# Altium schematic symbol library Operaciones_SCH_LIBRARY.SchLib: 18 symbols
Pins are listed as number, name and electrical type; pins without a type are passive.

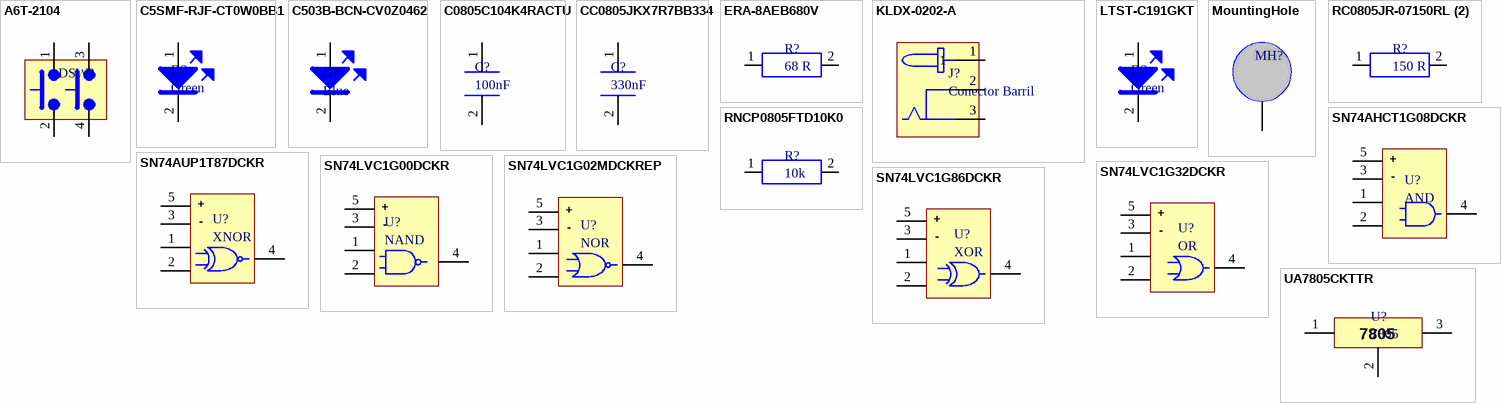
[diagram p0: symbols A6T-2104 to UA7805CKTTR]

## A6T-2104
designator DSW?, comment DIP switch 2 pos  (value not drawn)
Slide Switch,STRAIGHT,DPST,ON-OFF,Number Of Positions:2,PC TAIL Terminal,PCB Hole Count:4; Manufacturer: Omron; Manufacturer Part Number: A6T-2104; Mechanical Life: 1000Cycles; Voltage Rating (DC): 24V; Throw Configuration: SPST; Max Current Rating: 25mA; Number of Positions: 2; Actuator Type: Slide (Standard); Contact Resistance: 200mR; Pitch: 0.1inch; Actuator Length: 0.6mm; Washable: No; Supplier 1: Avnet; Supplier Part Number 1: A6T2104; Stock 1: 0; Pricing 1: 76=0.9571, 152=0.9269, 304=0.8834, 456=0.8585, 608=0.8274 (USD); Mount: Through Hole,PCB; Case/Package: DIP; Weight: 0.26g; Contact Plating: Gold; Contact Material: Gold; Min Operating Temperature: -20°C; Max Operating Temperature: 70°C; Package Quantity: 76; Packaging: Rail/Tube; Current Rating: 25mA; Termination: PC Pins; Electrical Life: 1000Cycles; Orientation: Straight; Contact Current Rating: 25mA; Max Voltage Rating (DC): 24V; Number of Circuits: 2; Length: 0.237inch; Height: 4.2mm; Width: 6.2mm; Terminal Pitch: 2.54mm; Radiation Hardening: No; Lead Free: Lead Free; REACH SVHC: Unknown; ComponentLink1URL: http://www.omron.com/ecb/products/pdf/en-a6t.pdf?src-supplier=Digi-Key; ComponentLink1Description: http://www.omron.com/ecb/products/pdf/en-a6t.pdf?src-supplier=Digi-Key; ComponentLink2URL: http://www.farnell.com/datasheets/54384.pdf?src-supplier=Element14; ComponentLink2Description: http://www.farnell.com/datasheets/54384.pdf?src-supplier=Element14; ComponentLink3URL: http://www.mouser.com/ds/2/307/A6T_1110-10807.pdf?src-supplier=Mouser; ComponentLink3Description: http://www.mouser.com/ds/2/307/A6T_1110-10807.pdf?src-supplier=Mouser
footprint DipSwitch_1x02
pins: 1, 2, 3, 4

## C5SMF-RJF-CT0W0BB1
designator D?, comment Green
LED RED CLEAR 5MM OVAL T/H; Manufacturer: Cree; Manufacturer Part Number: C5SMF-RJF-CT0W0BB1; Forward Current: 20mA; Forward Voltage: 2.1V; Luminous Intensity: 2640mcd; Lens Style: Elliptical; Viewing Angle: 40°; Dominant Wavelength: 621nm; Supplier 1: Avnet; Supplier Part Number 1: 45W7905; Stock 1: 0; Pricing 1: 1=0.144, 10=0.144, 30=0.144, 50=0.144, 100=0.144 (USD); Mount: Through Hole; Case/Package: Radial; Color: Red; Lens Color: Red; Min Operating Temperature: -40°C; Max Operating Temperature: 95°C; Package Quantity: 500; Packaging: Bulk; Illumination Color: Red; Lens Transparency: Clear; Test Current: 20mA; Height: 10.95mm; ComponentLink1URL: http://www.cree.com/led-components/media/documents/C5SMF-RJF-RJE-GJF-GJE-BJF-BJE-1240.pdf?src-supplier=Digi-Key; ComponentLink1Description: http://www.cree.com/led-components/media/documents/C5SMF-RJF-RJE-GJF-GJE-BJF-BJE-1240.pdf?src-supplier=Digi-Key
footprint LedTHGreen
pins: 1 A, 2 C

## C503B-BCN-CV0Z0462
designator D?, comment Blue
Standard LEDs - Through Hole 30DG BL NOSTNDOF HI BRT LAMP 470NM 3.2V; Manufacturer: Cree; Manufacturer Part Number: C503B-BCN-CV0Z0462; Lens Color: Colorless; Luminous Intensity: 7065mcd; Lens Style: Dome,Round; Viewing Angle: 30°; Forward Current: 20mA; Lens Transparency: Clear; Number of Elements: 1; Power Dissipation: 120mW; Reverse Voltage: 5V; Supplier 1: Avnet; Supplier Part Number 1: 08R2921; Stock 1: 0; Pricing 1: 1=0.21, 10=0.196, 100=0.179, 500=0.171, 1000=0.162 (USD); Mount: Through Hole; Case/Package: Radial; Number of Pins: 2; Color: Blue; Min Operating Temperature: -40°C; Max Operating Temperature: 95°C; Illumination Color: Blue; Forward Voltage: 3.2V; Wavelength: 470nm; Package Quantity: 2500; Packaging: Tape and Reel; Test Current: 20mA; Dominant Wavelength: 470nm; Number of LEDs: 1; Length: 5.8mm; Height: 10.3mm; Depth: 5.8mm; REACH SVHC: Unknown; ComponentLink1URL: http://www.farnell.com/datasheets/1758062.pdf?src-supplier=Element14; ComponentLink1Description: http://www.farnell.com/datasheets/1758062.pdf?src-supplier=Element14; ComponentLink2URL: http://www.cree.com/~/media/Files/Cree/LED%20Components%20and%20Modules/HB/Data%20Sheets/C503B%20BAS%20BAN%20BCS%20BCN%20GAS%20GAN%20GCS%20GCN%201094.pdf?src-supplier=Digi-Key; ComponentLink2Description: http://www.cree.com/~/media/Files/Cree/LED%20Components%20and%20Modules/HB/Data%20Sheets/C503B%20BAS%20BAN%20BCS%20BCN%20GAS%20GAN%20GCS%20GCN%201094.pdf?src-supplier=Digi-Key
footprint LedTHBlue
pins: 1 A, 2 C

## C0805C104K4RACTU
designator C?, comment 100nF
KEMET - C0805C104K4RACTU - SMD Multilayer Ceramic Capacitor, 0.1 µF, 16 V, 0805 [2012 Metric], ± 10%, X7R, C Series KEMET; Voltage Rating: 16V; Supplier 1: Avnet; Supplier Part Number 1: C0805C104K4RACTU; Manufacturer: KEMET; Manufacturer Part Number: C0805C104K4RACTU; Stock 1: 12000; Pricing 1: 4000=0.0363, 8000=0.035, 16000=0.034, 24000=0.0333, 32000=0.032 (USD); Mount: Surface Mount,PCB; Case/Package: 0805; Number of Pins: 2; Case Code (Imperial): 0805; Case Code (Metric): 2012; Contact Plating: Tin,Matte; Dielectric Material: Ceramic; Min Operating Temperature: -55°C; Max Operating Temperature: 125°C; Capacitance: 100nF; Packaging: Tape and Reel; Package Quantity: 1; Tolerance: 10%; Voltage Rating (DC): 16V; Dielectric: X7R; Termination: SMD/SMT; Voltage: 16V; Length: 2mm; Height: 0.9mm; Width: 0.049inch; Lead Pitch: 0.75mm; Thickness: 0.035inch; Depth: 1.25mm; Radiation Hardening: No; REACH SVHC: No SVHC; ComponentLink1URL: http://www.farnell.com/datasheets/2741062.pdf?src-supplier=Element14; ComponentLink1Description: http://www.farnell.com/datasheets/2741062.pdf?src-supplier=Element14
footprint Capacitor0805
pins: 1, 2

## CC0805JKX7R7BB334
designator C?, comment 330nF
CAP CER 0.33UF 16V X7R 0805; Manufacturer: Yageo; Manufacturer Part Number: CC0805JKX7R7BB334; Material: Ceramic; Tolerance: 5%; Supplier 1: Avnet; Supplier Part Number 1: CC0805JKX7R7BB334; Stock 1: 0; Pricing 1: 3000=0.0246, 6000=0.0243, 12000=0.0236, 18000=0.0231, 24000=0.0222 (USD); Mount: Surface Mount; Case/Package: 0805; Min Operating Temperature: -55°C; Max Operating Temperature: 125°C; Voltage Rating: 16V; Capacitance: 330nF; Packaging: Tape and Reel; Dielectric: X7R; Voltage Rating (DC): 16V; Voltage: 16V; Length: 2mm; Width: 0.049inch; Thickness: 0.057inch; Depth: 1.25mm; Radiation Hardening: No; Lead Free: Lead Free; Halogen Free: Halogen Free; ComponentLink1URL: https://www.verical.com/server-webapp/html/getDatasheet?partID=403645&src-supplier=Verical; ComponentLink1Description: https://www.verical.com/server-webapp/html/getDatasheet?partID=403645&src-supplier=Verical
footprint Capacitor0805
pins: 1, 2

## ERA-8AEB680V
designator R?, comment 68 R
RES SMD 68 OHM 0.1% 1/4W 1206; Manufacturer: Panasonic; Manufacturer Part Number: ERA-8AEB680V; Resistance: 68R; Temperature Coefficient: 25ppm/°C; Power Rating: 250mW; Voltage Rating: 300V; Supplier 1: Avnet; Supplier Part Number 1: ERA-8AEB680V; Stock 1: 0; Pricing 1: 5000=0.1506, 10000=0.1475, 20000=0.1455, 30000=0.1413, 40000=0.1382 (USD); Mount: Surface Mount; Case/Package: 1206; Number of Pins: 2; Weight: 0.000571oz; Contact Plating: Tin; Case Code (Imperial): 1206; Case Code (Metric): 3216; Min Operating Temperature: -55°C; Max Operating Temperature: 155°C; Tolerance: 0.1%; Composition: Metal Film,Thin Film; Package Quantity: 5000; Packaging: Tape and Reel; Termination: SMD/SMT; Number of Terminations: 2; Military Standard: Not; Max Power Dissipation: 250mW; Voltage Rating (DC): 300V; Length: 3.2mm; Height: 0.6mm; Width: 1.6mm; Depth: 1.6mm; Radiation Hardening: No; REACH SVHC: No SVHC; Lead Free: Lead Free; ComponentLink1URL: http://industrial.panasonic.com/www-data/pdf/AOA0000/AOA0000CE26.pdf?src-supplier=Avnet+Europe; ComponentLink1Description: http://industrial.panasonic.com/www-data/pdf/AOA0000/AOA0000CE26.pdf?src-supplier=Avnet+Europe; ComponentLink2URL: http://www.farnell.com/datasheets/391390.pdf?src-supplier=Element14; ComponentLink2Description: http://www.farnell.com/datasheets/391390.pdf?src-supplier=Element14; ComponentLink3URL: http://industrial.panasonic.com/www-data/pdf/AOA0000/AOA0000CE26.pdf?src-supplier=Avnet; ComponentLink3Description: http://industrial.panasonic.com/www-data/pdf/AOA0000/AOA0000CE26.pdf?src-supplier=Avnet; ComponentLink4URL: https://www.distrelec.biz/Web/Downloads/_t/ds/ERA_eng_tds.pdf?mime=application%2Fpdf&src-supplier=Distrelec; ComponentLink4Description: https://www.distrelec.biz/Web/Downloads/_t/ds/ERA_eng_tds.pdf?mime=application%2Fpdf&src-supplier=Distrelec
footprint Resistor0805
pins: 1, 2

## KLDX-0202-A
designator J?, comment Conector Barril
Conn Power PIN 2 POS Solder RA Thru-Hole 3 Terminal 1 Port; Manufacturer: Kycon; Manufacturer Part Number: KLDX-0202-A; Number of Contacts: 2; Current Rating: 3.5A; Voltage Rating: 24V; Gender: Female; Insulation Resistance: 100MR; Supplier 1: Avnet; Supplier Part Number 1: KLDX-0202-A; Stock 1: 0; Mount: Through Hole; Contact Plating: Tin; Color: Black; Contact Material: Brass; Housing Material: PBT; Min Operating Temperature: -25°C; Max Operating Temperature: 85°C; Package Quantity: 500; Termination: Solder; Orientation: Right Angle; Packaging: Bag; Contact Gender: Female; Connector Type: Power; Voltage Rating (DC): 24V; Radiation Hardening: No; Flammability Rating: UL94 V-0
footprint JackConector
pins: 1, 2, 3

## LTST-C191GKT
designator D?, comment Green
LED GREEN CLEAR 0603 SMD; Manufacturer: Vishay Lite-On; Manufacturer Part Number: LTST-C191GKT; Lens Color: Colorless; Viewing Angle: 130°; Lens Style: Clear,Diffused,Colorless,Rectangular; Forward Voltage: 2.1V; Luminous Intensity: 12mcd; Forward Current: 30mA; Dominant Wavelength: 569nm; Test Current: 20mA; Wavelength: 565nm; Number of LEDs: 1; Reverse Voltage: 5V; Power Dissipation: 100mW; Supplier 1: Avnet; Supplier Part Number 1: LTST-C191GKT; Stock 1: 0; Pricing 1: 5000=0.037, 10000=0.0361, 20000=0.0344, 30000=0.0334, 40000=0.0327 (USD); Mount: Surface Mount; Case/Package: 0603; Number of Pins: 2; Color: Green; Case Code (Metric): 1608; Case Code (Imperial): 0603; Min Operating Temperature: -55°C; Max Operating Temperature: 85°C; Package Quantity: 1; Illumination Color: Green; Packaging: Tape and Reel; Lens Transparency: Clear; Number of Elements: 1; Power Rating: 100mW; Length: 1.6mm; Height: 0.55mm; Width: 0.8mm; Depth: 0.8mm; Radiation Hardening: No; Lead Free: Lead Free; ComponentLink1URL: http://www1.futureelectronics.com/doc/LITE%20ON/LITE-ON%20LTST-C191GKT.pdf?src-supplier=Future+Electronics; ComponentLink1Description: http://www1.futureelectronics.com/doc/LITE%20ON/LITE-ON%20LTST-C191GKT.pdf?src-supplier=Future+Electronics; ComponentLink2URL: http://www.mouser.com/ds/2/239/liteon_ltst-c191gkt-371200.pdf?src-supplier=Mouser; ComponentLink2Description: http://www.mouser.com/ds/2/239/liteon_ltst-c191gkt-371200.pdf?src-supplier=Mouser; ComponentLink3URL: https://media.digikey.com/pdf/Data%20Sheets/Lite-On%20PDFs/LTST-C191GKT.pdf?src-supplier=Digi-Key; ComponentLink3Description: https://media.digikey.com/pdf/Data%20Sheets/Lite-On%20PDFs/LTST-C191GKT.pdf?src-supplier=Digi-Key
footprint Led0603
pins: 1 A, 2 C

## MountingHole
designator MH?, comment Mounting Hole  (value not drawn)
footprint MH
pins: 1

## RC0805JR-07150RL (2)
designator R?, comment 150 R
YAGEO (PHYCOMP)   RC0805JR-07150RL   Surface Mount Chip Resistor, Thick Film, RC Series, 150 ohm, 125 mW,  5%, 150 V; Resistance: 150R; Temperature Coefficient: 100ppm/°C; Power Rating: 125mW; Voltage Rating: 150V; Supplier 1: Avnet; Supplier Part Number 1: RC0805JR-07150RL; Manufacturer: Yageo; Manufacturer Part Number: RC0805JR-07150RL; Stock 1: 0; Pricing 1: 5000=0.0021, 10000=0.002, 20000=0.002, 30000=0.0019, 40000=0.0018 (USD); Case/Package: 0805; Contact Plating: Tin,Matte,Lead; Case Code (Imperial): 0805; Case Code (Metric): 2012; Min Operating Temperature: -55°C; Max Operating Temperature: 155°C; Tolerance: 5%; Composition: Thick Film; Packaging: Tape and Reel; Termination: SMD/SMT; Radiation Hardening: No; REACH SVHC: Unknown; Lead Free: Lead Free; ComponentLink1URL: http://www.farnell.com/datasheets/444164.pdf?src-supplier=Element14; ComponentLink1Description: http://www.farnell.com/datasheets/444164.pdf?src-supplier=Element14; ComponentLink2URL: http://www.farnell.com/datasheets/442941.pdf?src-supplier=Element14; ComponentLink2Description: http://www.farnell.com/datasheets/442941.pdf?src-supplier=Element14
footprint Resistor0805
pins: 1, 2

## RNCP0805FTD10K0
designator R?, comment 10k
RES 10K OHM 1% 1/4W 0805; Manufacturer: Stackpole Electronics; Manufacturer Part Number: RNCP0805FTD10K0; Resistance: 10kR; Max Power Dissipation: 250mW; Temperature Coefficient: 100ppm/°C; Supplier 1: Avnet; Supplier Part Number 1: RNCP0805FTD10K0; Stock 1: 0; Pricing 1: 5000=0.0068, 10000=0.0067, 20000=0.0065, 30000=0.0064, 40000=0.0061 (USD); Mount: Surface Mount; Case/Package: 0805; Case Code (Metric): 2012; Case Code (Imperial): 0805; Min Operating Temperature: -55°C; Max Operating Temperature: 155°C; Tolerance: 1%; Packaging: Tape and Reel; Composition: Thin Film; Number of Terminations: 2; Features: Moisture Resistant,Anti-Sulfur; Length: 0.079inch; Height: 0.024inch; Width: 0.049inch; Lead Free: Lead Free; ComponentLink1URL: https://www.seielect.com/catalog/SEI-Packaging.pdf?src-supplier=Digi-Key; ComponentLink1Description: https://www.seielect.com/catalog/SEI-Packaging.pdf?src-supplier=Digi-Key
footprint Resistor0805
pins: 1, 2

## SN74AHCT1G08DCKR
designator U?, comment AND
IC GATE AND 1CH 2-INP SC70-5; Manufacturer: Texas Instruments; Manufacturer Part Number: SN74AHCT1G08DCKR; Max Supply Voltage: 5.5V; Min Supply Voltage: 4.5V; Operating Supply Voltage: 5V; Propagation Delay: 7.9ns; Number of Outputs: 1; Number of Inputs: 2; Output Current: 8mA; Quiescent Current: 1uA; High Level Output Current: -8mA; Turn-On Delay Time: 9ns; Schmitt Trigger Input: No; Supplier 1: Avnet; Supplier Part Number 1: SN74AHCT1G08DCKR; Stock 1: 0; Pricing 1: 9000=0.0434, 15000=0.0417, 24000=0.0398, 45000=0.0386, 90000=0.0372 (USD); Mount: Surface Mount; Case/Package: SC; Number of Pins: 5; Weight: 8.8E-05oz; Contact Plating: Gold; Min Operating Temperature: -40°C; Max Operating Temperature: 125°C; Logic Function: AND; Packaging: Tape and Reel; Package Quantity: 3000; Number of Elements: 1; Number of Gates: 1; Number of Input Lines: 2; Number of Output Lines: 1; Low Level Output Current: 8mA; Number of Circuits: 1; Number of Bits: 1; Max Output Current: 8mA; Termination: SMD/SMT; Length: 2mm; Height: 0.9mm; Width: 1.25mm; Radiation Hardening: No; REACH SVHC: No SVHC; Lead Free: Lead Free; ComponentLink1URL: http://www.farnell.com/datasheets/1834083.pdf?src-supplier=Element14; ComponentLink1Description: http://www.farnell.com/datasheets/1834083.pdf?src-supplier=Element14; ComponentLink2URL: http://www.farnell.com/datasheets/1763941.pdf?src-supplier=Element14; ComponentLink2Description: http://www.farnell.com/datasheets/1763941.pdf?src-supplier=Element14; ComponentLink3URL: http://www.farnell.com/datasheets/1882756.pdf?src-supplier=Element14; ComponentLink3Description: http://www.farnell.com/datasheets/1882756.pdf?src-supplier=Element14; ComponentLink4URL: http://www.ti.com/lit/ds/symlink/sn74ahct1g08.pdf?src-supplier=Digi-Key; ComponentLink4Description: http://www.ti.com/lit/ds/symlink/sn74ahct1g08.pdf?src-supplier=Digi-Key
footprint DCK_SC_70_5
pins: 1 A, 2 B, 3 GND, 4 Y, 5 VCC
text: +; -

## SN74AUP1T87DCKR
designator U?, comment XNOR
TEXAS INSTRUMENTS - SN74AUP1T87DCKR - LOGIC, XNOR GATE, SINGLE, SC-70-5; Min Supply Voltage: 2.3V; Max Supply Voltage: 3.6V; Propagation Delay: 4.4ns; Number of Inputs: 2; Number of Circuits: 1; Quiescent Current: 500nA; High Level Output Current: 4mA; Logic Function: NOR,XNOR; Nominal Supply Current: 900nA; Supplier 1: Avnet; Supplier Part Number 1: SN74AUP1T87DCKR; Manufacturer: Texas Instruments; Manufacturer Part Number: SN74AUP1T87DCKR; Stock 1: 0; Pricing 1: 6000=0.093, 12000=0.0894, 18000=0.0852, 30000=0.0828, 60000=0.0798 (USD); Mount: Surface Mount; Case/Package: SC; Number of Pins: 5; Min Operating Temperature: -40°C; Max Operating Temperature: 85°C; Packaging: Tape and Reel; Package Quantity: 1; Low Level Output Current: 4mA; Number of Elements: 1; Number of Gates: 1; Number of Bits: 1; Number of Outputs: 1; Output Current: 4mA; Radiation Hardening: No; Lead Free: Lead Free; REACH SVHC: No SVHC; ComponentLink1URL: http://focus.ti.com/lit/ds/symlink/sn74aup1t87.pdf?src-supplier=Avnet; ComponentLink1Description: http://focus.ti.com/lit/ds/symlink/sn74aup1t87.pdf?src-supplier=Avnet; ComponentLink2URL: http://www.ti.com/general/docs/lit/getliterature.tsp?genericPartNumber=SN74AUP1T87&&fileType=pdf&src-supplier=Avnet; ComponentLink2Description: http://www.ti.com/general/docs/lit/getliterature.tsp?genericPartNumber=SN74AUP1T87&&fileType=pdf&src-supplier=Avnet; ComponentLink3URL: http://www.farnell.com/datasheets/2020581.pdf?src-supplier=Element14; ComponentLink3Description: http://www.farnell.com/datasheets/2020581.pdf?src-supplier=Element14; ComponentLink4URL: http://www.ti.com/lit/ds/symlink/sn74aup1t87.pdf?src-supplier=Digi-Key; ComponentLink4Description: http://www.ti.com/lit/ds/symlink/sn74aup1t87.pdf?src-supplier=Digi-Key
footprint DCK_SC_70_5
pins: 1 A, 2 B, 3 GND, 4 Y, 5 VCC
text: +; -

## SN74LVC1G00DCKR
designator U?, comment NAND
TEXAS INSTRUMENTS         SN74LVC1G00DCKR            NAND Gate, LVC Family, 1 Gate, 2 Input, 32 mA, 1.65V to 5.5V, SC-70-5; Number of Inputs: 2; Propagation Delay: 4ns; Number of Outputs: 1; Low Level Output Current: 32mA; Quiescent Current: 10uA; High Level Output Current: -32mA; Turn-On Delay Time: 4.3ns; Schmitt Trigger Input: No; Operating Supply Voltage: 5V; Supplier 1: Avnet; Supplier Part Number 1: SN74LVC1G00DCKR; Manufacturer: Texas Instruments; Manufacturer Part Number: SN74LVC1G00DCKR; Stock 1: 0; Pricing 1: 3000=0.0341, 6000=0.0328, 12000=0.0312, 18000=0.0304, 24000=0.0293 (USD); Mount: Surface Mount; Case/Package: SC; Number of Pins: 5; Weight: 8.8E-05oz; Contact Plating: Gold; Min Operating Temperature: -40°C; Max Operating Temperature: 125°C; Logic Function: NAND; Min Supply Voltage: 1.65V; Max Supply Voltage: 5.5V; Packaging: Tape and Reel; Package Quantity: 1; Number of Gates: 1; Number of Input Lines: 2; Number of Output Lines: 1; Number of Circuits: 1; Number of Elements: 1; Number of Bits: 1; Output Current: 32mA; Max Output Current: 32mA; Termination: SMD/SMT; Length: 2mm; Height: 0.9mm; Width: 1.25mm; Radiation Hardening: No; Lead Free: Lead Free; REACH SVHC: No SVHC; ComponentLink1URL: http://www.farnell.com/datasheets/1887494.pdf?src-supplier=Element14; ComponentLink1Description: http://www.farnell.com/datasheets/1887494.pdf?src-supplier=Element14; ComponentLink2URL: http://www.jameco.com/Jameco/Products/ProdDS/1043571.pdf?src-supplier=Jameco; ComponentLink2Description: http://www.jameco.com/Jameco/Products/ProdDS/1043571.pdf?src-supplier=Jameco; ComponentLink3URL: http://www.ti.com/lit/ds/symlink/sn74lvc1g00.pdf?src-supplier=Digi-Key; ComponentLink3Description: http://www.ti.com/lit/ds/symlink/sn74lvc1g00.pdf?src-supplier=Digi-Key; ComponentLink4URL: http://www.ti.com/general/docs/lit/getliterature.tsp?genericPartNumber=SN74LVC1G00&&fileType=pdf&src-supplier=Avnet; ComponentLink4Description: http://www.ti.com/general/docs/lit/getliterature.tsp?genericPartNumber=SN74LVC1G00&&fileType=pdf&src-supplier=Avnet; ComponentLink5URL: https://www.verical.com/server-webapp/html/getDatasheet?partID=189925&src-supplier=Verical; ComponentLink5Description: https://www.verical.com/server-webapp/html/getDatasheet?partID=189925&src-supplier=Verical; ComponentLink6URL: http://www.produktinfo.conrad.com/datenblaetter/1000000-1099999/001075097-da-01-en-IC_NAND_GATE_2_SN74LVC1G00DCKR_SC_70_TID.pdf?src-supplier=Conrad; ComponentLink6Description: http://www.produktinfo.conrad.com/datenblaetter/1000000-1099999/001075097-da-01-en-IC_NAND_GATE_2_SN74LVC1G00DCKR_SC_70_TID.pdf?src-supplier=Conrad
footprint DCK_SC_70_5
pins: 1 A, 2 B, 3 GND, 4 Y, 5 VCC
text: +; -

## SN74LVC1G02MDCKREP
designator U?, comment NOR
Enhanced Product Single 2-Input Positive-Nor Gate 5-SC70 -55 to 125; Manufacturer: Texas Instruments; Manufacturer Part Number: SN74LVC1G02MDCKREP; Min Supply Voltage: 1.65V; Max Supply Voltage: 5.5V; Quiescent Current: 10uA; Output Current: 32mA; Number of Inputs: 2; Propagation Delay: 5ns; Number of Circuits: 1; High Level Output Current: -32mA; Turn-On Delay Time: 6ns; Supplier 1: Avnet; Supplier Part Number 1: SN74LVC1G02MDCKREP; Stock 1: 0; Pricing 1: 3000=0.8727, 6000=0.8389, 12000=0.7995, 18000=0.7769, 24000=0.7488 (USD); Mount: Surface Mount; Case/Package: SC; Number of Pins: 5; Weight: 8.8E-05oz; Min Operating Temperature: -55°C; Max Operating Temperature: 125°C; Logic Function: NOR; Package Quantity: 1; Packaging: Tape and Reel; Low Level Output Current: 32mA; Number of Gates: 1; Number of Elements: 1; Number of Bits: 1; Number of Outputs: 1; Number of Input Lines: 2; Number of Output Lines: 1; Radiation Hardening: No; REACH SVHC: No SVHC; Lead Free: Lead Free; ComponentLink1URL: http://www.ti.com/general/docs/lit/getliterature.tsp?genericPartNumber=SN74LVC1G02-EP&&fileType=pdf&src-supplier=Avnet; ComponentLink1Description: http://www.ti.com/general/docs/lit/getliterature.tsp?genericPartNumber=SN74LVC1G02-EP&&fileType=pdf&src-supplier=Avnet; ComponentLink2URL: http://www.ti.com/lit/ds/symlink/sn74lvc1g02-ep.pdf?src-supplier=Digi-Key; ComponentLink2Description: http://www.ti.com/lit/ds/symlink/sn74lvc1g02-ep.pdf?src-supplier=Digi-Key; ComponentLink3URL: http://focus.ti.com/lit/ds/symlink/sn74lvc1g02-ep.pdf?src-supplier=Avnet+Europe; ComponentLink3Description: http://focus.ti.com/lit/ds/symlink/sn74lvc1g02-ep.pdf?src-supplier=Avnet+Europe; ComponentLink4URL: http://www.produktinfo.conrad.com/datenblaetter/1000000-1099999/001073413-da-01-en-IC_SNGL_2_SN74LVC1G02MDCKREP_SC_70_5_TID.pdf?src-supplier=Conrad; ComponentLink4Description: http://www.produktinfo.conrad.com/datenblaetter/1000000-1099999/001073413-da-01-en-IC_SNGL_2_SN74LVC1G02MDCKREP_SC_70_5_TID.pdf?src-supplier=Conrad
footprint DCK_SC_70_5
pins: 1 A, 2 B, 3 GND, 4 Y, 5 VCC
text: +; -

## SN74LVC1G32DCKR
designator U?, comment OR
IC GATE OR 1CH 2-INP SC70-5; Manufacturer: Texas Instruments; Manufacturer Part Number: SN74LVC1G32DCKR; Min Supply Voltage: 1.65V; Max Supply Voltage: 5.5V; Quiescent Current: 10uA; Output Current: 32mA; Number of Inputs: 2; Propagation Delay: 4ns; Number of Elements: 1; High Level Output Current: -32mA; Turn-On Delay Time: 4.5ns; Schmitt Trigger Input: No; Supplier 1: Avnet; Supplier Part Number 1: SN74LVC1G32DCKR; Stock 1: 0; Pricing 1: 3000=0.0341, 6000=0.0328, 12000=0.0312, 18000=0.0304, 24000=0.0293 (USD); Mount: Surface Mount; Case/Package: SC; Number of Pins: 5; Weight: 8.8E-05oz; Contact Plating: Gold; Min Operating Temperature: -40°C; Max Operating Temperature: 125°C; Logic Function: OR; Package Quantity: 1; Packaging: Tape and Reel; Number of Outputs: 1; Number of Circuits: 1; Low Level Output Current: 32mA; Number of Gates: 1; Number of Input Lines: 2; Number of Output Lines: 1; Number of Bits: 1; Max Output Current: 32mA; Termination: SMD/SMT; Length: 2mm; Height: 0.9mm; Width: 1.25mm; Radiation Hardening: No; REACH SVHC: No SVHC; Lead Free: Lead Free; ComponentLink1URL: http://www.ti.com/lit/ds/symlink/sn74lvc1g32.pdf?src-supplier=Digi-Key; ComponentLink1Description: http://www.ti.com/lit/ds/symlink/sn74lvc1g32.pdf?src-supplier=Digi-Key; ComponentLink2URL: http://www.ti.com/general/docs/lit/getliterature.tsp?genericPartNumber=SN74LVC1G32&amp;&amp;fileType=pdf&src-supplier=Farnell; ComponentLink2Description: http://www.ti.com/general/docs/lit/getliterature.tsp?genericPartNumber=SN74LVC1G32&amp;&amp;fileType=pdf&src-supplier=Farnell; ComponentLink3URL: https://www.verical.com/server-webapp/html/getDatasheet?partID=127914&src-supplier=Verical; ComponentLink3Description: https://www.verical.com/server-webapp/html/getDatasheet?partID=127914&src-supplier=Verical; ComponentLink4URL: http://www.jameco.com/Jameco/Products/ProdDS/756781.pdf?src-supplier=Jameco; ComponentLink4Description: http://www.jameco.com/Jameco/Products/ProdDS/756781.pdf?src-supplier=Jameco; ComponentLink5URL: http://www.ti.com/general/docs/lit/getliterature.tsp?genericPartNumber=SN74LVC1G32&amp;&amp;fileType=pdf&src-supplier=Avnet+Asia; ComponentLink5Description: http://www.ti.com/general/docs/lit/getliterature.tsp?genericPartNumber=SN74LVC1G32&amp;&amp;fileType=pdf&src-supplier=Avnet+Asia; ComponentLink6URL: http://www.farnell.com/datasheets/1768050.pdf?src-supplier=Element14; ComponentLink6Description: http://www.farnell.com/datasheets/1768050.pdf?src-supplier=Element14; ComponentLink7URL: http://www.ti.com/general/docs/lit/getliterature.tsp?genericPartNumber=SN74LVC1G32&&fileType=pdf&src-supplier=Avnet; ComponentLink7Description: http://www.ti.com/general/docs/lit/getliterature.tsp?genericPartNumber=SN74LVC1G32&&fileType=pdf&src-supplier=Avnet; ComponentLink8URL: http://focus.ti.com/lit/ds/symlink/sn74lvc1g32.pdf?src-supplier=Avnet+Europe; ComponentLink8Description: http://focus.ti.com/lit/ds/symlink/sn74lvc1g32.pdf?src-supplier=Avnet+Europe
footprint DCK_SC_70_5
pins: 1 A, 2 B, 3 GND, 4 Y, 5 VCC
text: +; -

## SN74LVC1G86DCKR
designator U?, comment XOR
TEXAS INSTRUMENTS - SN74LVC1G86DCKR - XOR Gate, 74LVC1G86, 2 Input, 32 mA, 1.65 V to 5.5 V, SC-70-5; Max Supply Voltage: 5.5V; Min Supply Voltage: 1.65V; Logic Function: XOR,OR; Quiescent Current: 10uA; Propagation Delay: 4ns; Number of Inputs: 2; Number of Circuits: 1; High Level Output Current: -32mA; Low Level Output Current: 32mA; Turn-On Delay Time: 5ns; Schmitt Trigger Input: No; Supplier 1: Avnet; Supplier Part Number 1: SN74LVC1G86DCKR; Manufacturer: Texas Instruments; Manufacturer Part Number: SN74LVC1G86DCKR; Stock 1: 0; Pricing 1: 12500=0.031, 13000=0.0298, 26000=0.0284, 63000=0.0276, 130000=0.0266 (USD); Mount: Surface Mount; Case/Package: SC; Number of Pins: 5; Weight: 8.8E-05oz; Contact Plating: Gold; Min Operating Temperature: -40°C; Max Operating Temperature: 125°C; Packaging: Tape and Reel; Package Quantity: 1; Number of Gates: 1; Number of Elements: 1; Number of Bits: 1; Number of Outputs: 1; Number of Input Lines: 2; Number of Output Lines: 1; Output Current: 32mA; Max Output Current: 32mA; Termination: SMD/SMT; Length: 2.15mm; Height: 1mm; Width: 1.4mm; Radiation Hardening: No; Lead Free: Lead Free; REACH SVHC: No SVHC; ComponentLink1URL: http://www.ti.com/lit/ds/symlink/sn74lvc1g86.pdf?src-supplier=Digi-Key; ComponentLink1Description: http://www.ti.com/lit/ds/symlink/sn74lvc1g86.pdf?src-supplier=Digi-Key; ComponentLink2URL: http://www.farnell.com/datasheets/1850935.pdf?src-supplier=Element14; ComponentLink2Description: http://www.farnell.com/datasheets/1850935.pdf?src-supplier=Element14; ComponentLink3URL: http://www.ti.com/general/docs/lit/getliterature.tsp?genericPartNumber=SN74LVC1G86&&fileType=pdf&src-supplier=Avnet; ComponentLink3Description: http://www.ti.com/general/docs/lit/getliterature.tsp?genericPartNumber=SN74LVC1G86&&fileType=pdf&src-supplier=Avnet; ComponentLink4URL: http://www.ti.com/general/docs/lit/getliterature.tsp?genericPartNumber=SN74LVC1G86&amp;&amp;fileType=pdf&src-supplier=Avnet+Asia; ComponentLink4Description: http://www.ti.com/general/docs/lit/getliterature.tsp?genericPartNumber=SN74LVC1G86&amp;&amp;fileType=pdf&src-supplier=Avnet+Asia
footprint DCK_SC_70_5
pins: 1 A, 2 B, 3 GND, 4 Y, 5 VCC
text: +; -

## UA7805CKTTR
designator U?, comment 7805
LDO Regulator Pos 5V 1.5A 4-Pin(3+Tab) TO-263 T/R; Manufacturer: Texas Instruments; Manufacturer Part Number: UA7805CKTTR; Number of Outputs: 1; Min Input Voltage: 7V; Max Input Voltage: 25V; Output Type: Fixed; Polarity: Positive; Quiescent Current: 8mA; Dropout Voltage: 2V; Max Output Voltage: 5.2V; Min Output Voltage: 4.8V; Power Rating: 15W; Power Supply Rejection Ratio (PSRR): 78dB; Supplier 1: Avnet; Supplier Part Number 1: UA7805CKTTR; Stock 1: 0; Pricing 1: 1000=0.3875, 2000=0.3725, 3000=0.355, 5000=0.345, 10000=0.3325 (USD); Mount: Surface Mount; Case/Package: TO-263; Number of Pins: 3; Weight: 0.050897oz; Contact Plating: Tin,Matte; Min Operating Temperature: 0°C; Max Operating Temperature: 125°C; Max Output Current: 1.5A; Output Voltage: 5V; Output Current: 1.5A; Packaging: Tape and Reel; Package Quantity: 1; Nominal Output Voltage: 5V; Number of Regulators: 1; Length: 10.67mm; Height: 4.83mm; Width: 9.65mm; Radiation Hardening: No; Lead Free: Lead Free; REACH SVHC: No SVHC; ComponentLink1URL: http://www.farnell.com/datasheets/1882245.pdf?src-supplier=Element14; ComponentLink1Description: http://www.farnell.com/datasheets/1882245.pdf?src-supplier=Element14; ComponentLink2URL: http://www.ti.com/lit/ds/symlink/ua78.pdf?src-supplier=Digi-Key; ComponentLink2Description: http://www.ti.com/lit/ds/symlink/ua78.pdf?src-supplier=Digi-Key; ComponentLink3URL: http://www.farnell.com/datasheets/1994325.pdf?src-supplier=Element14; ComponentLink3Description: http://www.farnell.com/datasheets/1994325.pdf?src-supplier=Element14; ComponentLink4URL: http://www.ti.com/general/docs/lit/getliterature.tsp?genericPartNumber=UA7812&&fileType=pdf&src-supplier=Avnet; ComponentLink4Description: http://www.ti.com/general/docs/lit/getliterature.tsp?genericPartNumber=UA7812&&fileType=pdf&src-supplier=Avnet
footprint T0-236
pins: 1, 2, 3